# EAGLE library part MINI_DIN_6 (library mini_din)
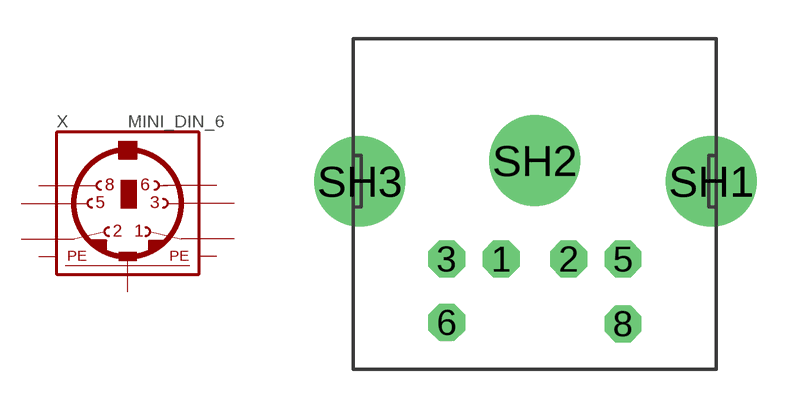
[diagram p3: symbol with the pads of M_DIN6; footprint M_DIN6]

Designator prefix X

## MINI_DIN_6  [M_DIN6]
1  1  pas
2  2  pas
3  3  pas
5  5  pas
6  6  pas
8  8  pas
SH1  PE1  pwr
SH2  PE2  pwr
SH3  PE3  pwr

## Footprint M_DIN6 (pad centres in mm)
drill 0.9 pad 1.422 octagon: 1 -1.3,-3.75; 2 1.3,-3.75; 3 -3.4,-3.75; 5 3.4,-3.75; 6 -3.4,-6.2; 8 3.4,-6.25
drill 2.3 pad 3.5: SH1 6.8,-0.75; SH2 0,0.05; SH3 -6.75,-0.75